# EAGLE library part TD620*A (library transistor-array-toshiba)
8ch Darlington Sink Driver Features Output current (single output) 500 mA (max) (TD62081AP/AF series) High sustaining voltage output 50 V (min) (TD62081AP/AF series) Output clamp diodes Inputs compatible with various types of logic. Type TD62081AP/AF: general purpose TD62082AP/AF: 14 V to 25 V PMOS TD62083AP/AF: TTL, 5V CMOS TD62084AP/AF: 6 V to 15 V PMOS, CMOS
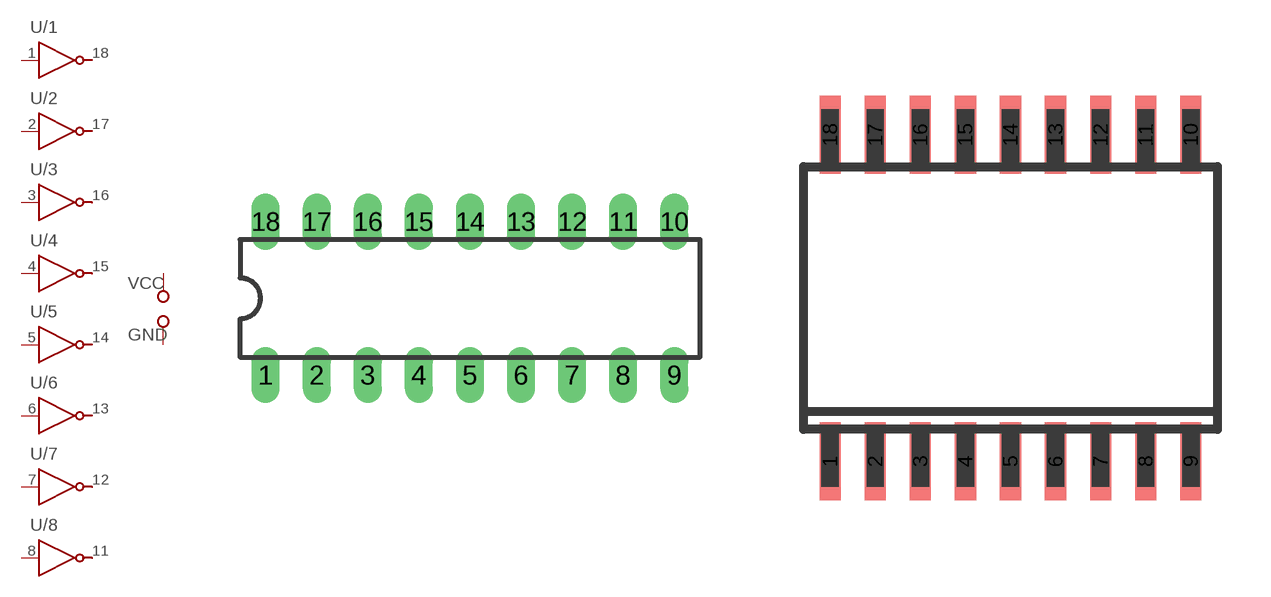
[diagram p1: symbol with the pads of DIP-18; footprints DIP-18, SOP-18]

Designator prefix -; gates /VCC=VCC /GND=GND /4=INV-BUF /3=INV-BUF /2=INV-BUF /1=INV-BUF /5=INV-BUF /6=INV-BUF /7=INV-BUF /8=INV-BUF

## TD62081AP, TD62082AP, TD62083AP, TD62084AP  [DIP-18]
1  /1:P$1  in
2  /2:P$1  in
3  /3:P$1  in
4  /4:P$1  in
5  /5:P$1  in
6  /6:P$1  in
7  /7:P$1  in
8  /8:P$1  in
9  /VCC:VCC  pwr
10  /GND:GND  pwr
11  /8:P$2  out
12  /7:P$2  out
13  /6:P$2  out
14  /5:P$2  out
15  /4:P$2  out
16  /3:P$2  out
17  /2:P$2  out
18  /1:P$2  out

## TD62081AF, TD62082AF, TD62083AF, TD62084AF  [SOP-18]
Pads as for DIP-18

## Footprint DIP-18 (pad centres in mm)
Dual In Line Package
drill 0.889 long: 1 -10.16,-3.81; 2 -7.62,-3.81; 3 -5.08,-3.81; 4 -2.54,-3.81; 5 0,-3.81; 6 2.54,-3.81; 7 5.08,-3.81; 8 7.62,-3.81; 9 10.16,-3.81; 10 10.16,3.81; 11 7.62,3.81; 12 5.08,3.81; 13 2.54,3.81; 14 0,3.81; 15 -2.54,3.81; 16 -5.08,3.81; 17 -7.62,3.81; 18 -10.16,3.81

## Footprint SOP-18 (pad centres in mm)
Small Outline Integrated Circuit wide
smd 0.6 x 2.2: 1 -5.08,-4.6; 2 -3.81,-4.6; 3 -2.54,-4.6; 4 -1.27,-4.6; 5 0,-4.6; 6 1.27,-4.6; 7 2.54,-4.6; 8 3.81,-4.6; 9 5.08,-4.6; 10 5.08,4.6; 11 3.81,4.6; 12 2.54,4.6; 13 1.27,4.6; 14 0,4.6; 15 -1.27,4.6; 16 -2.54,4.6; 17 -3.81,4.6; 18 -5.08,4.6